# Altium schematic symbol library Schlib1.SchLib: 1 symbol
Pins are listed as number, name and electrical type; pins without a type are passive.

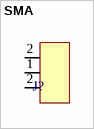
[diagram p0: symbol SMA]

## SMA
designator J?  (value not drawn)
footprint SMA
pins: 1, 2, 2